# Altium footprint library basic_pcb.PcbLib: 133 footprints (part 5 of 9)
Each footprint in its own frame and in the unit in brackets; x right, y up, seen from the top. Pads: shape width x height; smd on the part's side, far side on the other; paste and mask are expansions set on the pad; w line width, h text height; cw(c..) or ccw(c..) is an arc to the next point about the centre after c.
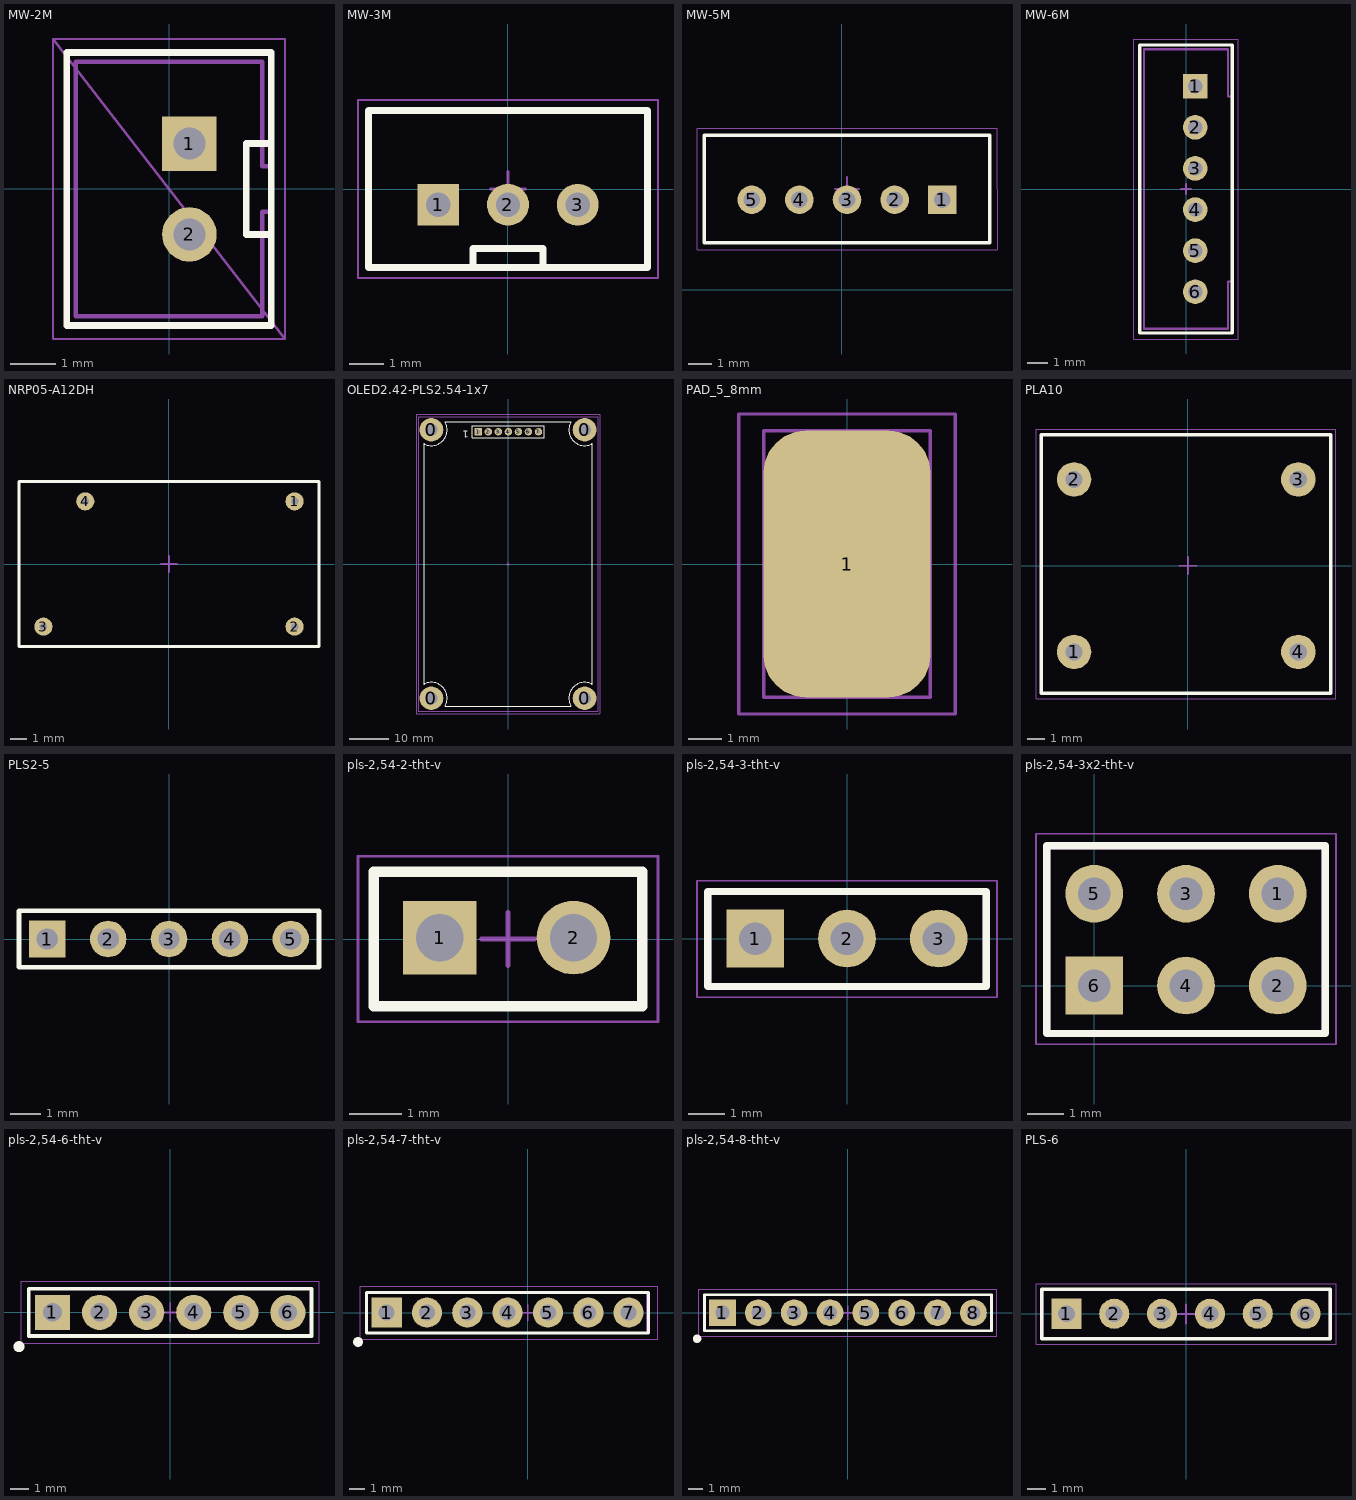
[diagram p4: the footprints below, top view; thin cyan lines are the x and y axes]

## MW-2M [mm]
height 6
pads (2):
  rect 1.2x1.2 hole 0.7: 1(0.45,1)
  round 1.2 hole 0.7: 2(0.45,-1)
Top Overlay:
  lines w0.15: 2.25,-1 1.7,-1 1.7,1 2.25,1 ; -2.25,-3 2.25,-3 2.25,3 -2.25,3 -2.25,-3
Top Value:
  text ".Comment" at 4.574,-3.307 h1.2
Top Designator:
  text ".Designator" at 3.535,-3.308 h1.5
Top Component Outline:
  lines w0.1: 2.24,0.5 2.05,0.5 2.05,2.8 -2.05,2.8 -2.05,-2.8 2.05,-2.8 2.05,-0.5 2.25,-0.5 ; -2.25,-3 -2.25,3 2.25,3 2.25,-3 -2.25,-3
Top Courtyard:
  lines w0.05: -2.55,3.3 2.55,-3.3 ; -2.55,3.3 2.55,3.3 2.55,-3.3 ; -2.55,3.3 -2.55,-3.3 2.55,-3.3
3D body "B2B-PH-K-S.STEP": height 6, standoff -3.4, extent -2.25,-2.95 2.25,2.95

## MW-3M [mm]
pads (3):
  rect 1.2x1.2 hole 0.7: 1(-2,-0.45)
  round 1.2 hole 0.7: 2(0,-0.45) 3(2,-0.45)
Top Overlay:
  lines w0.2: -1,-2.25 -1,-1.7 1,-1.7 1,-2.25 ; -4,-2.25 4,-2.25 4,2.25 -4,2.25 -4,-2.25
Top Value:
  text ".Comment" at -4.307,-4.574 h1.2
Top Designator:
  text ".Designator" at -4.308,-3.535 h1.5
Top Component Outline:
  lines w0.1: -0.5,-2.25 -4,-2.25 ; 0.5,-2.24 4,-2.24 4,2.25 ; -4,-2.25 -4,2.25 ; -4,-2.25 4,-2.25 4,2.25 ; -4,-2.25 -4,2.25 ; -4,2.25 4,2.25 ; -4,2.25 4,2.25
Top Courtyard:
  lines w0.05: -4.3,-2.55 -4.3,2.55 4.3,2.55 4.3,-2.55 -4.3,-2.55
  lines w0.1: -0.5,0 0.5,0 ; 0,-0.5 0,0.5
3D body "B3B-PH-K-S.STEP": height 6, standoff -3.4, extent -3.95,-2.25 3.95,2.25

## MW-5M [mm]
height 6
pads (5):
  rect 1.2x1.2 hole 0.7: 1(4.225,3.775)
  round 1.2 hole 0.7: 2(2.225,3.775) 3(0.225,3.775) 4(-1.775,3.775) 5(-3.775,3.775)
Top Overlay:
  lines w0.15: -5.775,1.975 -5.775,6.475 6.225,6.475 6.225,1.975 -5.775,1.975
Top Value:
  text ".Comment" at -6.107,-0.374 h1.2
Top Designator:
  text ".Designator" at -6.108,0.665 h1.5
Top Component Outline:
  lines w0.1: -5.775,1.975 6.225,1.975 6.225,6.475 -5.775,6.475 -5.775,1.975
Top Courtyard:
  lines w0.05: -6.075,1.675 6.525,1.675 6.525,6.775 -6.075,6.775 -6.075,1.675
  lines w0.1: -0.275,4.225 0.725,4.225 ; 0.225,3.725 0.225,4.725
3D body: height 6, standoff 0, extent -5.775,1.975 6.225,6.475

## MW-6M [mm]
pads (6):
  rect 1.2x1.2 hole 0.7: 1(0.45,5)
  round 1.2 hole 0.7: 2(0.45,3) 3(0.45,1) 4(0.45,-1) 5(0.45,-3) 6(0.45,-5)
Top Overlay:
  lines w0.15: -2.25,-7 -2.25,7 2.25,7 2.25,-7 -2.25,-7
Top Value:
  lines w0.1: 2.24,-4.5 2.05,-4.5 2.05,-6.8 -2.05,-6.8 -2.05,6.8 2.05,6.8 2.05,4.5 2.24,4.5 ; -2.25,-7 -2.25,7 2.25,7 2.25,-7 -2.25,-7
  text ".Comment" at 4.674,-7.307 h1.2
Top Designator:
  text ".Designator" at 3.635,-7.308 h1.5
Top Courtyard:
  lines w0.05: -2.55,-7.3 2.55,-7.3 2.55,7.3 -2.55,7.3 -2.55,-7.3
  lines w0.1: -0.25,0 0.25,0 ; 0,-0.25 0,0.25
3D body "B6B-PH-K-S.STEP": height 6, standoff -3.4, extent -2.25,-6.95 2.25,6.95

## NRP05-A12DH [mm]
height 14.9
pads (4):
  round 1.1 hole 0.45: 1(7.62,3.8) 2(7.62,-3.8) 3(-7.62,-3.8) 4(-5.08,3.8)
Top Overlay:
  lines w0.2: -9.1,-5 -9.1,5 9.1,5 9.1,-5 -9.1,-5
Top Value:
  text ".Comment" at -2.189,-1.452 h1.52
Top Designator:
  text ".Designator" at -2.617,0.772 h1.52
Top Component Outline:
  lines w0.1: -9.1,-5 -9.1,5 9.1,5 9.1,-5 -9.1,-5
Top Courtyard:
  lines w0.1: -0.5,0 0.5,0 ; 0,-0.5 0,0.5

## OLED2.42-PLS2.54-1x7 [mm] "OLED 2.42inc, PLS2.54-1x7"
height 11.5
pads (11):
  round 6 hole 3.2: 0(-19.4,-34) 0(-19.4,34) 0(19.4,-34) 0(19.4,34)
  rect 1.9x1.9 hole 1: 1(-7.52,33.5)
  round 1.9 hole 1: 2(-4.98,33.5) 3(-2.44,33.5) 4(0.1,33.5) 5(2.64,33.5) 6(5.18,33.5) 7(7.72,33.5)
Top Overlay:
  lines w0.2: -21.4,-30.532 -21.4,30.536 ccw(c-19.4,34) -15.932,35.994 ; -21.394,-30.532 cw(c-19.4,-34) -15.936,-36 15.921,-36 ; -15.932,36 15.8,36 ; 15.932,-35.994 cw(c19.4,-34) 21.4,-30.536 21.4,30.532 ; 15.936,36 ccw(c19.4,34) 21.394,30.532 ; -9,32 9.219,32 9.219,35 -9,35 -9,32
  text "1" at -10,34.4 h3
Top Value:
  text ".Comment" at -1.63,2.739 h2
Top Designator:
  text ".Designator" at 0.316,4.981 h3
Top Component Outline:
  lines w0.1: -22.7,-37.3 22.7,-37.3 22.7,37.3 -22.7,37.3 -22.7,-37.3
Top Courtyard:
  lines w0.1: -0.5,0 0.5,0 ; 0,-0.5 0,0.5 ; -23.3,-37.9 -23.3,37.9 23.3,37.9 23.3,-37.9 -23.3,-37.9
3D body "OLED 2.42 12864 v7.step": height 7.44, standoff -6, extent -21.391,-35.997 21.409,36.003

## PAD_5_8mm [mm] "Ïëîùàäêà äëÿ ïàéêè 5x5 ìì"
pads (1):
  rrect50% 5x8 smd: 1(0,0)
Top Component Outline:
  lines w0.1: -2.5,-4 2.5,-4 2.5,4 1.25,4 -2.5,4 -2.5,-4
Top Courtyard:
  lines w0.1: -3.25,-4.5 3.25,-4.5 3.25,4.5 1.25,4.5 -3.25,4.5 -3.25,-4.5

## PLA10 [mm] "ñèíôàçíûé äðîññåëü murata"
height 17.5
pads (4):
  round 2 hole 1: 1(-6.6,-5) 2(-6.6,5) 3(6.4,5) 4(6.4,-5)
Top Overlay:
  lines w0.2: -8.507,-7.4 -8.507,7.6 8.285,7.6 8.285,-7.4 -8.507,-7.4
Top Value:
  text ".Comment" at -2.189,-1.452 h1.52
Top Designator:
  text ".Designator" at -2.617,0.772 h1.52
Top Component Outline:
  lines w0.1: -8.507,-7.4 8.285,-7.4 8.285,7.6 -8.507,7.6 -8.507,-7.4
Top Courtyard:
  lines w0.05: -8.807,-7.7 8.585,-7.7 8.585,7.9 -8.807,7.9 -8.807,-7.7
  lines w0.1: -0.5,0 0.5,0 ; 0,-0.5 0,0.5
3D body "User Library-PLA10-1.STEP": height 16.3, standoff -3.3, extent -8.507,-7.4 8.285,7.6

## PLS2-5 [mm]
height 0.05
pads (5):
  rect 1.2x1.2 hole 0.7: 1(-4,0)
  round 1.2 hole 0.7: 2(-2,0) 3(0,0) 4(2,0) 5(4,0)
Top Overlay:
  lines w0.15: -4.93,-0.93 -4.93,0.93 4.93,0.93 4.93,-0.93 -4.93,-0.93
Top Value:
  lines w0.1: -4.93,-0.93 -4.93,0.93 4.93,0.93 4.93,-0.93 -4.93,-0.93
  text ".Comment" at -5.008,-3.252 h1.52
Top Designator:
  text ".Designator" at -5.018,-2.029 h1.52

## pls-2,54-2-tht-v [mm]
height 0.05
pads (2):
  rect 1.4x1.4 hole 0.9: 1(-1.295,0.025)
  round 1.4 hole 0.9: 2(1.245,0.025)
Top Overlay:
  lines w0.2: -2.55,-1.275 -2.55,1.275 2.55,1.275 2.55,-1.275 -2.55,-1.275
Top Value:
  text ".Comment" at -2.808,-3.852 h1.52
Top Designator:
  text ".Designator" at -2.818,-2.629 h1.52
Top Component Outline:
  lines w0.1: -2.55,-1.275 -2.55,1.275 2.55,1.275 2.55,-1.275 -2.55,-1.275
Top Courtyard:
  lines w0.05: -2.85,-1.575 -2.85,1.575 2.85,1.575 2.85,-1.575 -2.85,-1.575
  lines w0.1: -0.5,0 0.5,0 ; 0,-0.5 0,0.5
3D body "User Library-PLS-2.step": height 8.59, standoff -2.95, extent -2.545,-1.265 2.535,1.275

## pls-2,54-3-tht-v [mm]
height 0.05
pads (3):
  rect 1.6x1.6 hole 0.9: 1(-2.54,0)
  round 1.6 hole 0.9: 2(0,0) 3(2.54,0)
Top Overlay:
  lines w0.2: -3.85,-1.325 -3.85,1.3 3.85,1.3 3.85,-1.325 -3.85,-1.325
Top Value:
  text ".Comment" at -4.108,-3.952 h1.52
Top Designator:
  text ".Designator" at -4.118,-2.729 h1.52
Top Component Outline:
  lines w0.1: -3.8,-1.275 3.8,-1.275 3.8,1.25 -3.8,1.25 -3.8,-1.275
Top Courtyard:
  lines w0.05: -4.15,-1.625 4.15,-1.625 4.15,1.6 -4.15,1.6 -4.15,-1.625
  lines w0.1: -0.5,0 0.5,0 ; 0,-0.5 0,0.5
3D body "User Library-PLS-5.STEP": height 8.54, standoff -3, extent -3.81,-1.275 3.81,1.265

## pls-2,54-3x2-tht-v [mm]
height 0.05
pads (6):
  round 1.6 hole 0.9: 1(5.08,2.54) 2(5.08,0) 3(2.54,2.54) 4(2.54,0) 5(0,2.54)
  rect 1.6x1.6 hole 0.9: 6(0,0)
Top Overlay:
  lines w0.2: -1.31,-1.325 6.39,-1.325 6.39,3.865 -1.31,3.865 -1.31,-1.325
Top Value:
  text ".Comment" at -1.608,-3.952 h1.52
Top Designator:
  text ".Designator" at -1.618,-2.729 h1.52
Top Component Outline:
  lines w0.1: -1.26,-1.275 6.34,-1.275 6.34,3.815 -1.26,3.815 -1.26,-1.275
Top Courtyard:
  lines w0.05: -1.61,0.975 -1.61,4.2 6.69,4.2 6.69,0.975 ; -1.61,1.6 -1.61,-1.625 6.69,-1.625 6.69,1.6
  lines w0.1: 2.04,0 3.04,0 ; 2.04,2.6 3.04,2.6 ; 2.54,-0.5 2.54,0.5 ; 2.54,2.1 2.54,3.1

## pls-2,54-6-tht-v [mm] "PLS-6"
height 11.5
pads (6):
  rect 1.9x1.9 hole 1: 1(-6.35,0)
  round 1.9 hole 1: 2(-3.81,0) 3(-1.27,0) 4(1.27,0) 5(3.81,0) 6(6.35,0)
Top Overlay:
  circle w0.6: c-8.155,-1.85 r0.001
  lines w0.2: -7.625,-1.275 -7.625,1.275 7.625,1.275 7.625,-1.275 -7.625,-1.275
Top Value:
  text ".Comment" at 2.792,-3.952 h1.52
Top Designator:
  text ".Designator" at 2.782,-2.729 h1.52
Top Component Outline:
  circle w0.35: c-6.875,0.325 r0.15
  lines w0.1: -7.625,-1.275 7.625,-1.275 7.625,1.275 -7.625,1.275 -7.625,-1.275
Top Courtyard:
  lines w0.05: -8.025,-1.675 8.025,-1.675 8.025,1.675 -8.025,1.675 -8.025,-1.675
  lines w0.1: -0.5,0 0.5,0 ; 0,-0.5 0,0.5
3D body "PLS-6.STEP": height 8.54, standoff -3, extent -7.615,-1.27 7.625,1.27

## pls-2,54-7-tht-v [mm] "PLS-7"
height 11.5
pads (7):
  rect 1.9x1.9 hole 1: 1(-8.89,0)
  round 1.9 hole 1: 2(-6.35,0) 3(-3.81,0) 4(-1.27,0) 5(1.27,0) 6(3.81,0) 7(6.35,0)
Top Overlay:
  circle w0.6: c-10.695,-1.85 r0.001
  lines w0.2: -10.165,-1.275 7.6,-1.275 7.6,1.275 -10.165,1.275 -10.165,-1.275
Top Value:
  text ".Comment" at -10.208,-3.952 h1.52
Top Designator:
  text ".Designator" at -10.218,-2.729 h1.52
Top Component Outline:
  circle w0.35: c-9.415,0.325 r0.15
  lines w0.1: -10.165,-1.275 -10.165,1.275 7.5,1.275 7.5,-1.275 -10.165,-1.275
Top Courtyard:
  lines w0.05: -10.565,-1.675 8.2,-1.675 8.2,1.675 -10.565,1.675 -10.565,-1.675
  lines w0.1: -0.5,0 0.5,0 ; 0,-0.5 0,0.5
3D body "User Library-PLS-5.STEP": height 8.54, standoff -3, extent 0,-1.275 7.62,1.265
3D body "User Library-PLS-5.STEP": height 8.54, standoff -3, extent -2.54,-1.275 5.08,1.265
3D body "User Library-PLS-5.STEP": height 8.54, standoff -3, extent -10.16,-1.275 -2.54,1.265

## pls-2,54-8-tht-v [mm] "PLS-8"
height 11.5
pads (8):
  rect 1.9x1.9 hole 1: 1(-8.89,0)
  round 1.9 hole 1: 2(-6.35,0) 3(-3.81,0) 4(-1.27,0) 5(1.27,0) 6(3.81,0) 7(6.35,0) 8(8.89,0)
Top Overlay:
  circle w0.6: c-10.695,-1.85 r0.001
  lines w0.2: -10.165,-1.275 10.165,-1.275 10.165,1.275 -10.165,1.275 -10.165,-1.275
Top Value:
  text ".Comment" at -10.208,-3.952 h1.52
Top Designator:
  text ".Designator" at -10.218,-2.729 h1.52
Top Component Outline:
  circle w0.35: c-9.415,0.325 r0.15
  lines w0.1: -10.165,-1.275 -10.165,1.275 10.165,1.275 10.165,-1.275 -10.165,-1.275
Top Courtyard:
  lines w0.05: -10.565,-1.675 10.565,-1.675 10.565,1.675 -10.565,1.675 -10.565,-1.675
  lines w0.1: -0.5,0 0.5,0 ; 0,-0.5 0,0.5
3D body "User Library-1x8 TH Pitch 2_54mm.STEP": height 9.2, standoff -3.5, extent -10.165,-1.275 10.155,1.265

## PLS-6 [mm]
height 0.05
pads (6):
  rect 1.6x1.6 hole 0.9: 1(-6.35,0.012)
  round 1.6 hole 0.9: 2(-3.81,0.012) 3(-1.27,0.012) 4(1.27,0.012) 5(3.81,0.012) 6(6.35,0.012)
Top Overlay:
  lines w0.2: -7.66,-1.313 0.04,-1.313 7.66,-1.313 7.66,1.312 0.04,1.312 -7.66,1.312 -7.66,-1.313
Top Value:
  text ".Comment" at -7.708,-3.852 h1.52
Top Designator:
  text ".Designator" at -7.718,-2.629 h1.52
Top Component Outline:
  lines w0.1: -0.01,-1.263 -7.61,-1.263 -7.61,1.262 -0.01,1.262 ; 7.61,-1.263 7.61,1.262
Top Courtyard:
  lines w0.05: -7.96,-1.613 -7.96,1.612 0.34,1.612 7.96,1.612 7.96,-1.613 0.34,-1.613 -7.96,-1.613
  lines w0.1: -0.5,0 0.5,0 ; 0,-0.5 0,0.5
3D body "User Library-PLS-5.STEP": height 8.54, standoff -3, extent -7.62,-1.262 0,1.278
3D body "User Library-PLS-5.STEP": height 8.54, standoff -3, extent 0,-1.262 7.62,1.278